# Altium footprint library SOP.PcbLib: 39 footprints (part 2 of 3)
Each footprint in its own frame and in the unit in brackets; x right, y up, seen from the top. Pads: shape width x height; smd on the part's side, far side on the other; paste and mask are expansions set on the pad; w line width, h text height; cw(c..) or ccw(c..) is an arc to the next point about the centre after c.
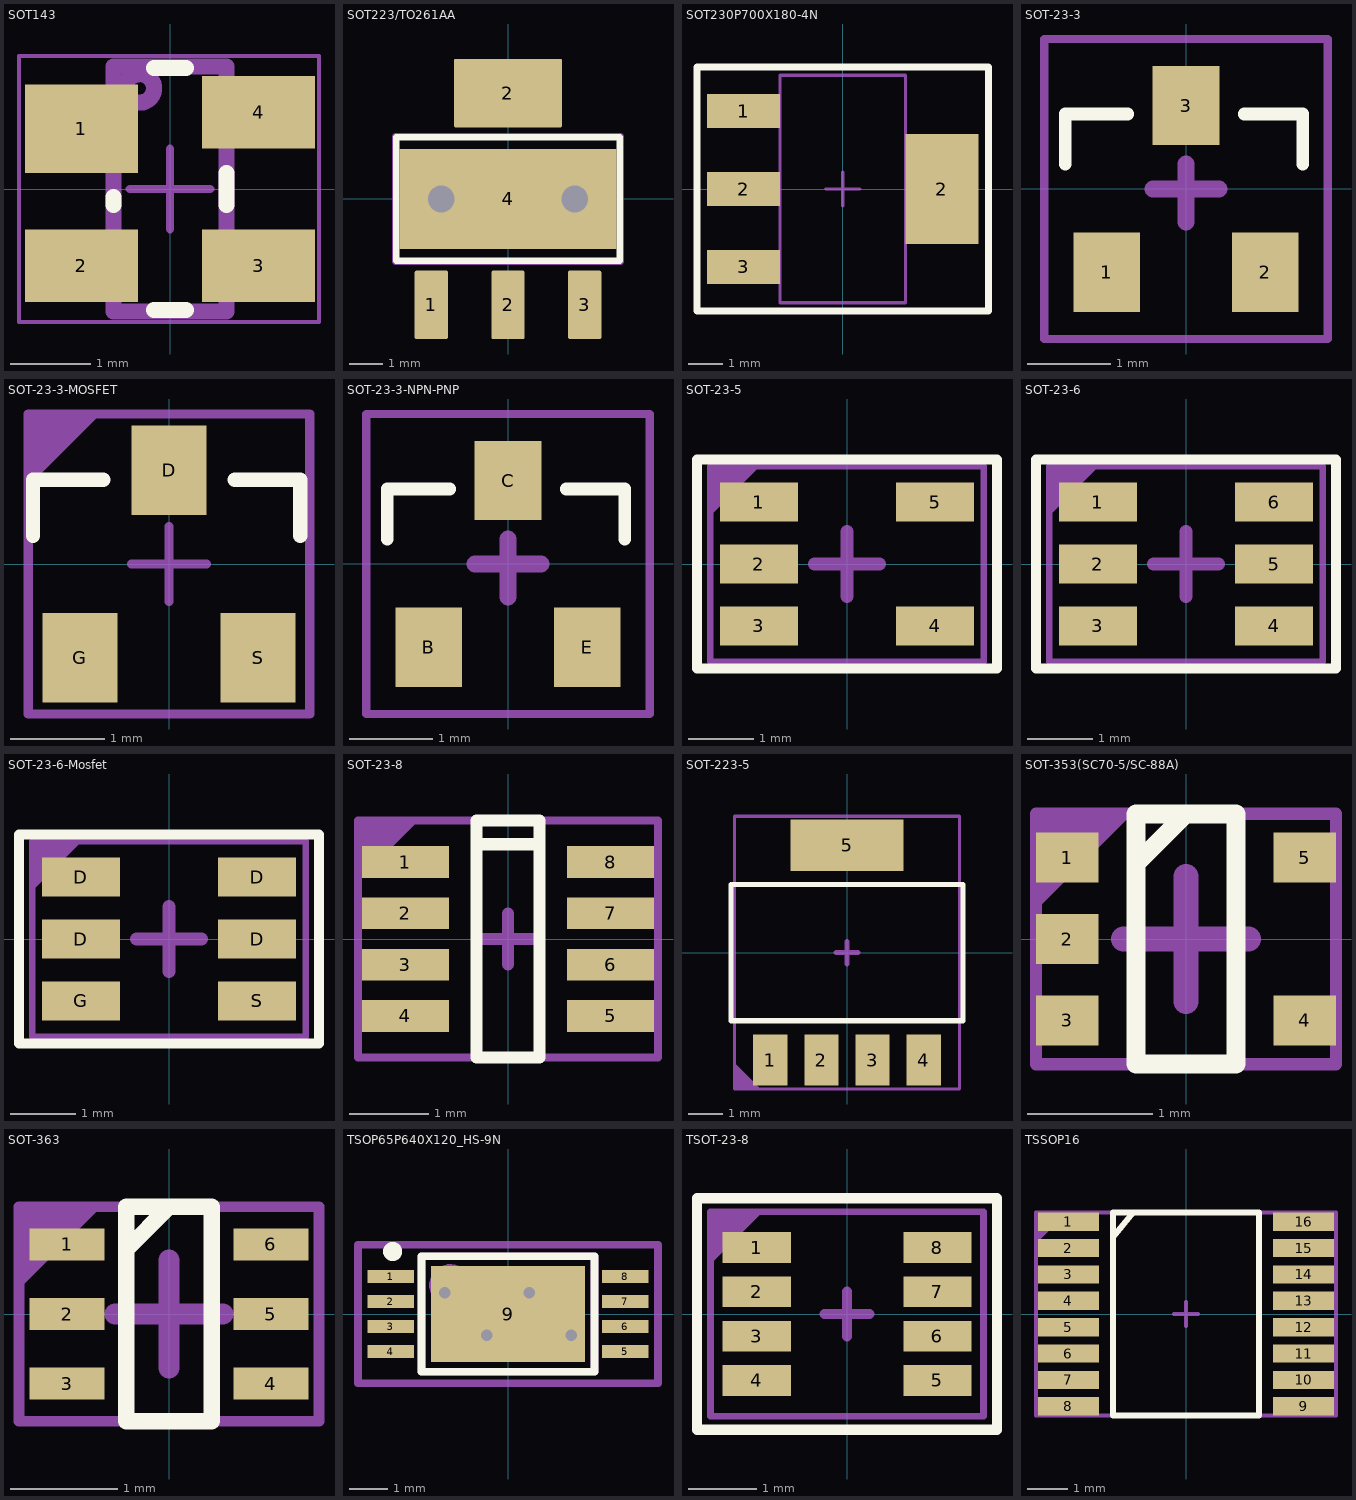
[diagram p1: the footprints below, top view; thin cyan lines are the x and y axes]

## SOT143 [mm]
pads (4):
  rect 1.4x1.1 smd: 1(-1.1,0.75)
  rect 1.4x0.9 smd: 2(-1.1,-0.95) 3(1.1,-0.95) 4(1.1,0.95)
Top Overlay:
  lines w0.2: -0.7,-0.2 -0.7,-0.1 ; -0.2,-1.5 0.2,-1.5 ; -0.2,1.5 0.2,1.5 ; 0.7,-0.2 0.7,0.2
  text "." at -2.446,1.854 h1.52
Top Assembly:
  circle w0.2: c-0.375,1.25 r0.177
  lines w0.2: -0.7,-1.52 0.7,-1.52 0.7,1.52 -0.7,1.52 -0.7,-1.52
  text "BAD" at -1.047,2.553 h0.8
  text "CHECK" at -1.847,3.853 h0.8
Mechanical 15:
  lines w0.05: -1.875,-1.65 -1.875,1.65 1.85,1.65 1.85,-1.65 -1.875,-1.65
  lines w0.1: -0.5,0 0.5,0 ; 0,-0.5 0,0.5
3D body "User Library-sot143-2.STEP": height 1, standoff 0, extent -1.21,-1.46 1.21,1.46

## SOT223/TO261AA [mm]
pads (5):
  rrect10% 1x2.05 smd: 1(-2.3,-3.175) 2(0,-3.175) 3(2.3,-3.175)
  rrect5% 3.25x2.05 smd: 2(0,3.175)
  rect 6.5x3 smd: 4(0,0)
via 2,0 diameter 1.2 hole 0.8
via -2,0 diameter 1.2 hole 0.8
Top Overlay:
  lines w0.2: -3.35,-1.85 3.35,-1.85 3.35,1.85 -3.35,1.85 -3.35,-1.85
  text "." at -4.246,-2.846 h1.52
Top Assembly:
  lines w0.2: -3.375,-1.875 3.375,-1.875 3.375,1.875 -3.375,1.875 -3.375,-1.875
  text "BAD" at -1.247,5.453 h0.8
3D body "CircuitWorks-SOT-223.STEP": height 1.6, standoff -0.08, extent -3.25,-3.48 3.25,3.48

## SOT230P700X180-4N [mm]
pads (4):
  rect 2.15x1 smd: 1(-2.925,2.3) 2(-2.925,0) 3(-2.925,-2.3)
  rect 2.15x3.25 smd: 2(2.925,0)
Top Overlay:
  lines w0.2: -4.3,-3.6 -4.3,3.6 4.3,3.6 4.3,-3.6 -4.3,-3.6
Top Assembly:
  lines w0.1: -4.3,-3.6 4.3,-3.6 4.3,3.6 -4.3,3.6 -4.3,-3.6
  text "'.Designator'" at -4.532,-0.333 h0.8
Mechanical 13:
  lines w0.1: -1.85,-3.35 -1.85,3.35 1.85,3.35 1.85,-3.35 -1.85,-3.35
Mechanical 15:
  lines w0.1: -0.5,0 0.5,0 ; 0,-0.5 0,0.5 ; -4.3,-3.6 -4.3,3.6 4.3,3.6 4.3,-3.6 -4.3,-3.6
3D body "SOT223-3.step": height 1.6, standoff 0, extent -3.507,-3.35 3.567,3.15

## SOT-23-3 [mm]
pads (3):
  rect 0.8x0.95 smd: 1(-0.95,-1) 2(0.95,-1) 3(0,1)
Top Overlay:
  lines w0.153: -1.45,0.3 -1.45,0.9 -0.7,0.9 ; 0.7,0.9 1.4,0.9 1.4,0.3
Top Assembly:
  lines w0.1: -1.7,-1.8 -1.7,1.8 1.7,1.8 1.7,-1.8 -1.7,-1.8
  text "'.Designator'" at -3.621,2.382 h0.8
Mechanical 15:
  lines w0.1: -1.7,-1.8 -1.7,1.8 1.7,1.8 1.7,-1.8 -1.7,-1.8
  lines w0.2: -0.4,0 0.4,0 ; 0,-0.4 0,0.3
3D body "CircuitWorks-SOT-23.STEP": height 1.05, standoff -0.05, extent -1.5,-1.25 1.5,1.25

## SOT-23-3-MOSFET [mm]
pads (3):
  rect 0.8x0.95 smd: D(0,1) G(-0.95,-1) S(0.95,-1)
Top Overlay:
  lines w0.153: -1.45,0.3 -1.45,0.9 -0.7,0.9 ; 0.7,0.9 1.4,0.9 1.4,0.3
Top Assembly:
  region: -1.5,1.6 -1.5,0.9 -0.8,1.6
  lines w0.1: -1.5,0.9 -0.8,1.6 ; -1.5,-1.6 1.5,-1.6 1.5,1.6 -1.5,1.6 -1.5,-1.6
  text "'.Designator'" at -4.532,-0.333 h0.8
Mechanical 15:
  lines w0.1: -0.4,0 0.4,0 ; 0,-0.4 0,0.4 ; -1.5,-1.6 1.5,-1.6 1.5,1.6 -1.5,1.6 -1.5,-1.6
3D body "CircuitWorks-SOT-23.STEP": height 1.05, standoff -0.05, extent -1.5,-1.25 1.5,1.25

## SOT-23-3-NPN-PNP [mm]
pads (3):
  rect 0.8x0.95 smd: B(-0.95,-1) C(0,1) E(0.95,-1)
Top Overlay:
  lines w0.153: -1.45,0.3 -1.45,0.9 -0.7,0.9 ; 0.7,0.9 1.4,0.9 1.4,0.3
Top Assembly:
  lines w0.1: -1.7,-1.8 -1.7,1.8 1.7,1.8 1.7,-1.8 -1.7,-1.8
  text "'.Designator'" at -3.621,2.382 h0.8
Mechanical 15:
  lines w0.1: -1.7,-1.8 -1.7,1.8 1.7,1.8 1.7,-1.8 -1.7,-1.8
  lines w0.2: -0.4,0 0.4,0 ; 0,-0.4 0,0.3
3D body "CircuitWorks-SOT-23.STEP": height 1.05, standoff -0.05, extent -1.5,-1.25 1.5,1.25

## SOT-23-5 [mm] "SOT23, 6-Leads, Body 2,90x2,80mm, Pitch 0,95mm, IPC Medium Density"
height 1.45
pads (5):
  rect 1.2x0.6 smd: 1(-1.35,0.95) 2(-1.35,0) 3(-1.35,-0.95) 4(1.35,-0.95) 5(1.35,0.95)
Top Overlay:
  lines w0.153: -2.3,-1.6 -2.3,1.6 2.3,1.6 2.3,-1.6 -2.3,-1.6
  text "." at -3.046,1.454 h1.52
Top Assembly:
  region: -2.1,1.5 -1.4,1.5 -2.1,0.8
  lines w0.1: -2.1,0.8 -1.4,1.5 ; -2.1,-1.5 -2.1,1.5 2.1,1.5 2.1,-1.5 -2.1,-1.5
  text "'.Designator'" at -4.532,-0.333 h0.8
Mechanical 15:
  lines w0.1: -2.1,-1.5 2.1,-1.5 ; -2.1,-1.5 -2.1,1.5 ; -2.1,-1.5 2.1,-1.5 ; -2.1,-1.5 -2.1,1.5 ; -2.1,1.5 2.1,1.5 ; -2.1,1.5 2.1,1.5 ; 2.1,-1.5 2.1,1.5 ; 2.1,-1.5 2.1,1.5 ; -2.1,0.8 -1.4,1.5 -2.1,0.8
  lines w0.2: -0.5,0 0.5,0 ; 0,-0.5 0,0.5
3D body "SOT-23-5.step": height 1.07, standoff -0.03, extent -1.25,-1.5 1.25,1.5

## SOT-23-6 [mm] "SOT23, 6-Leads, Body 2,90x2,80mm, Pitch 0,95mm, IPC Medium Density"
height 1.45
pads (6):
  rect 1.2x0.6 smd: 1(-1.35,0.95) 2(-1.35,0) 3(-1.35,-0.95) 4(1.35,-0.95) 5(1.35,0) 6(1.35,0.95)
Top Overlay:
  lines w0.153: -2.3,-1.6 2.3,-1.6 2.3,1.6 -2.3,1.6 -2.3,-1.6
  text "." at -3.046,1.454 h1.52
Top Assembly:
  region: -2.1,1.5 -1.4,1.5 -2.1,0.8
  lines w0.1: -2.1,0.8 -1.4,1.5 ; -2.1,-1.5 -2.1,1.5 2.1,1.5 2.1,-1.5 -2.1,-1.5
  text "'.Designator'" at -2.222,2.47 h0.8
Mechanical 15:
  lines w0.1: -2.1,-1.5 2.1,-1.5 ; -2.1,-1.5 -2.1,1.5 ; -2.1,-1.5 2.1,-1.5 ; -2.1,-1.5 -2.1,1.5 ; -2.1,1.5 2.1,1.5 ; -2.1,1.5 2.1,1.5 ; 2.1,-1.5 2.1,1.5 ; 2.1,-1.5 2.1,1.5 ; -2.1,0.8 -1.4,1.5 -2.1,0.8
  lines w0.2: -0.5,0 0.5,0 ; 0,-0.5 0,0.5
3D body "User Library-SOT23-6-4.STEP": height 1, standoff -0.1, extent -1.24,-1.442 1.16,1.458

## SOT-23-6-Mosfet [mm] "SOT23, 6-Leads, Body 2,90x2,80mm, Pitch 0,95mm, IPC Medium Density"
height 1.45
pads (6):
  rect 1.2x0.6 smd: D(-1.35,0) D(-1.35,0.95) D(1.35,0) D(1.35,0.95) G(-1.35,-0.95) S(1.35,-0.95)
Top Overlay:
  lines w0.153: -2.3,-1.6 2.3,-1.6 2.3,1.6 -2.3,1.6 -2.3,-1.6
  text "." at -3.046,1.454 h1.52
Top Assembly:
  region: -2.1,1.5 -1.4,1.5 -2.1,0.8
  lines w0.1: -2.1,0.8 -1.4,1.5 ; -2.1,-1.5 -2.1,1.5 2.1,1.5 2.1,-1.5 -2.1,-1.5
  text "'.Designator'" at -2.222,2.47 h0.8
Mechanical 15:
  lines w0.1: -2.1,-1.5 2.1,-1.5 ; -2.1,-1.5 -2.1,1.5 ; -2.1,-1.5 2.1,-1.5 ; -2.1,-1.5 -2.1,1.5 ; -2.1,1.5 2.1,1.5 ; -2.1,1.5 2.1,1.5 ; 2.1,-1.5 2.1,1.5 ; 2.1,-1.5 2.1,1.5 ; -2.1,0.8 -1.4,1.5 -2.1,0.8
  lines w0.2: -0.5,0 0.5,0 ; 0,-0.5 0,0.5
3D body "User Library-SOT23-6-4.STEP": height 1, standoff -0.1, extent -1.24,-1.442 1.16,1.458

## SOT-23-8 [mm]
pads (8):
  rect 1.1x0.4 smd: 1(-1.3,0.975) 2(-1.3,0.325) 3(-1.3,-0.325) 4(-1.3,-0.975) 5(1.3,-0.975) 6(1.3,-0.325) 7(1.3,0.325) 8(1.3,0.975)
Top Overlay:
  lines w0.153: -0.4,1.2 0.4,1.2 ; -0.4,-1.5 0.4,-1.5 0.4,1.5 -0.4,1.5 -0.4,-1.5
Top Assembly:
  region: -1.9,1.5 -1.2,1.5 -1.9,0.8
  lines w0.1: -1.9,0.8 -1.2,1.5 ; -1.9,-1.5 1.9,-1.5 1.9,1.5 -1.9,1.5 -1.9,-1.5
  text "'.Designator'" at -2.022,2.12 h0.8
Mechanical 15:
  lines w0.1: -1.9,0.8 -1.2,1.5 ; -1.9,-1.5 1.9,-1.5 1.9,1.5 -1.9,1.5 -1.9,-1.5
  lines w0.153: -0.325,0 0.325,0 ; 0,-0.325 0,0.325
3D body "sot23-8_p0-65_l3-0_w1-7.stp": height 1.44, standoff -0.01, extent -1.5,-1.5 1.5,1.5

## SOT-223-5 [mm]
pads (5):
  rect 1x1.5 smd: 1(-2.25,-3.15) 2(-0.75,-3.15) 3(0.75,-3.15) 4(2.25,-3.15)
  rect 3.3x1.5 smd: 5(0,3.15)
Top Overlay:
  lines w0.153: -3.4,-2 3.4,-2 3.4,2 -3.4,2 -3.4,-2
  text "." at -3.497,-4.722 h0.8
Top Assembly:
  region: -3.3,-4 -3.3,-3.3 -2.6,-4
  lines w0.1: -3.3,-3.3 -2.6,-4 ; -3.3,-4 3.3,-4 3.3,4 -3.3,4 -3.3,-4
  text "'.Designator'" at -2.947,4.92 h0.8
  text "CHECK" at -1.847,-0.447 h0.8
Mechanical 15:
  lines w0.1: -3.3,-3.3 -2.6,-4 ; -3.3,-4 -3.3,4 3.3,4 3.3,-4 -3.3,-4
  lines w0.153: -0.325,0 0.325,0 ; 0,-0.325 0,0.325
3D body "SOT223-5.step": height 1.7, standoff 0, extent -3.25,-3.48 3.25,3.48

## SOT-353(SC70-5/SC-88A) [mm]
height 1.1
pads (5):
  rect 0.5x0.4 smd: 1(-0.95,0.65) 2(-0.95,0) 3(-0.95,-0.65) 4(0.95,-0.65) 5(0.95,0.65)
Top Overlay:
  lines w0.15: -0.4,0.6 0,1
  lines w0.153: -0.4,-1 0.4,-1 0.4,1 -0.4,1 -0.4,-1
Top Assembly:
  region: -1.2,1 -0.5,1 -1.2,0.3
  lines w0.1: -1.2,0.3 -0.5,1 ; -1.2,-1 -1.2,1 1.2,1 1.2,-1 -1.2,-1
  text "'.Designator'" at -4.532,1.467 h0.8
Mechanical 15:
  lines w0.1: -1.2,0.3 -0.5,1 ; -1.2,-1 -1.2,1 1.2,1 1.2,-1 -1.2,-1
  lines w0.2: -0.5,0 0.5,0 ; 0,-0.5 0,0.5
3D body "User Library-SC70-5-1.step": height 0.95, standoff 0, extent -1.05,-1 1.05,1

## SOT-363 [mm]
pads (6):
  rect 0.7x0.3 smd: 1(-0.95,0.65) 2(-0.95,0) 3(-0.95,-0.65) 4(0.95,-0.65) 5(0.95,0) 6(0.95,0.65)
Top Overlay:
  lines w0.15: -0.4,0.6 0,1
  lines w0.153: -0.4,-1 -0.4,1 0.4,1 0.4,-1 -0.4,-1
Top Assembly:
  region: -1.4,1 -0.7,1 -1.4,0.3
  lines w0.1: -1.4,0.3 -0.7,1 ; -1.4,-1 1.4,-1 1.4,1 -1.4,1 -1.4,-1
  text "'.Designator'" at -4.532,-0.333 h0.8
Mechanical 15:
  lines w0.1: -1.4,-1 1.4,-1 1.4,1 -1.4,1 -1.4,-1
  lines w0.2: -0.5,0 0.5,0 ; 0,-0.5 0,0.5
3D body "User Library-SC70-5-1.step": height 0.95, standoff 0, extent -1.05,-1 1.05,1

## TSOP65P640X120_HS-9N [mm] "TSOP, 8-Leads, Body 2,93x4,40mm, Pitch 0,65mm, Thermal Pad 2,50x4,00mm, IPC Medium Density"
height 1.2
pads (9):
  rect 1.2x0.35 smd: 1(-3.05,0.975) 2(-3.05,0.325) 3(-3.05,-0.325) 4(-3.05,-0.975) 5(3.05,-0.975) 6(3.05,-0.325) 7(3.05,0.325) 8(3.05,0.975)
  rect 4x2.5 smd: 9(0,0)
via 1.65,-0.55 diameter 0.6 hole 0.3
via -0.55,-0.55 diameter 0.6 hole 0.3
via 0.55,0.55 diameter 0.6 hole 0.3
via -1.65,0.55 diameter 0.6 hole 0.3
Top Overlay:
  circle w0.25: c-3,1.625 r0.125
  lines w0.2: -2.25,-1.5 -2.25,1.5 2.25,1.5 2.25,-1.5 -2.25,-1.5
Top Assembly:
  circle w0.1: c-1.5,0.75 r0.5
  lines w0.2: -2.25,-1.5 2.25,-1.5 2.25,1.5 -2.25,1.5 -2.25,-1.5
  text "CHECK" at -1.547,3.753 h0.8
  text "'.Designator'" at -4.572,2.47 h0.8
Mechanical 15:
  lines w0.1: -0.5,0 0.5,0 ; 0,-0.5 0,0.5
  lines w0.2: -3.9,-1.8 3.9,-1.8 3.9,1.8 -3.9,1.8 -3.9,-1.8
3D body "TSOP65P640X120_HS-9N.step": height 1.2, standoff 0, extent -3.2,-1.5 3.2,1.5

## TSOT-23-8 [mm] "TSOT, 8-Leads, Body 2,90x1,60mm, Pitch 0,65mm, IPC Medium Density"
height 1
pads (8):
  rect 1x0.45 smd: 1(-1.325,0.975) 2(-1.325,0.325) 3(-1.325,-0.325) 4(-1.325,-0.975) 5(1.325,-0.975) 6(1.325,-0.325) 7(1.325,0.325) 8(1.325,0.975)
Top Overlay:
  lines w0.153: -2.2,-1.7 -2.2,1.7 2.2,1.7 2.2,-1.7 -2.2,-1.7
  text "." at -2.697,1.978 h0.8
Top Assembly:
  region: -2,1.5 -1.3,1.5 -2,0.8
  lines w0.1: -2,0.8 -1.3,1.5 ; -2,-1.5 -2,1.5 2,1.5 2,-1.5 -2,-1.5
  text "'.Designator'" at -4.532,-0.333 h0.8
Mechanical 15:
  lines w0.1: -2,0.8 -1.3,1.5 ; -2,-1.5 -2,1.5 2,1.5 2,-1.5 -2,-1.5
  lines w0.153: -0.325,0 0.325,0 ; 0,-0.325 0,0.325
3D body "AD7274.step": height 1, standoff 0, extent -1.4,-1.45 1.4,1.45

## TSSOP16 [mm]
pads (16):
  rect 1.5x0.45 smd mask+0.02: 1(-2.9,2.275) 2(-2.9,1.625) 3(-2.9,0.975) 4(-2.9,0.325) 5(-2.9,-0.325) 6(-2.9,-0.975) 7(-2.9,-1.625) 8(-2.9,-2.275) 9(2.9,-2.275) 10(2.9,-1.625) 11(2.9,-0.975) 12(2.9,-0.325) 13(2.9,0.325) 14(2.9,0.975) 15(2.9,1.625) 16(2.9,2.275)
Top Overlay:
  lines w0.153: -1.8,1.9 -1.3,2.5 ; -1.8,-2.5 1.8,-2.5 1.8,2.5 -1.8,2.5 -1.8,-2.5
Top Assembly:
  region: -3.7,2.5 -3,2.5 -3.7,1.8
  lines w0.1: -3.7,1.8 -3,2.5 ; -3.7,-2.5 3.7,-2.5 3.7,2.5 -3.7,2.5 -3.7,-2.5
  text "'.Designator'" at -4.247,-0.18 h0.8
Mechanical 15:
  lines w0.1: -3.7,1.8 -3,2.5 ; -0.3,0 0.3,0 ; 0,-0.3 0,0.3 ; -3.7,-2.5 -3.7,2.5 3.7,2.5 3.7,-2.5 -3.7,-2.5
3D body "TSSOP-16-1.step": height 1.1, standoff 0, extent -3.2,-2.5 3.2,2.5